# EAGLE library part LTC4120 (library Analog Devices)
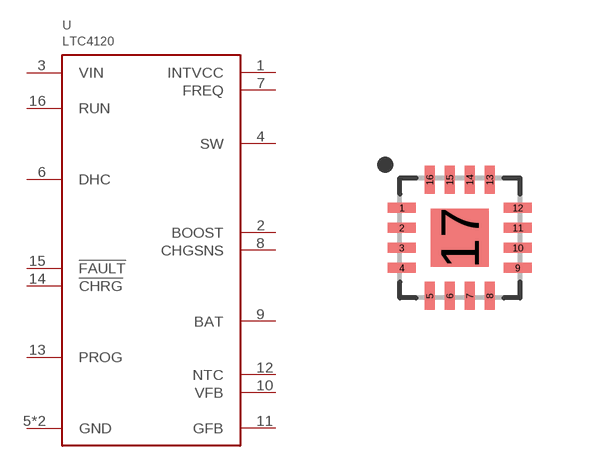
[diagram p5: symbol with the pads of QFN16; footprint QFN16]

Designator prefix U

## LTC4120  [QFN16]
1  INTVCC
2  BOOST
3  VIN
4  SW
5  GND
6  DHC
7  FREQ
8  CHGSNS
9  BAT
10  VFB
11  GFB
12  NTC
13  PROG
14  !CHRG
15  !FAULT
16  RUN
17  GND

## Footprint QFN16 (pad centres in mm)
smd 0.7 x 0.25: 1 -1.45,0.75; 2 -1.45,0.25; 3 -1.45,-0.25; 4 -1.45,-0.75; 9 1.45,-0.75; 10 1.45,-0.25; 11 1.45,0.25; 12 1.45,0.75
smd 0.25 x 0.7: 5 -0.75,-1.45; 6 -0.25,-1.45; 7 0.25,-1.45; 8 0.75,-1.45; 13 0.75,1.45; 14 0.25,1.45; 15 -0.25,1.45; 16 -0.75,1.45
smd 1.45 x 1.45: 17 0,0